# Altium schematic symbol library IC_Analog_Devices_ADM3260ARSZ-RL7_I2C_Isolator.SchLib: 1 symbol
Pins are listed as number, name and electrical type; pins without a type are passive.

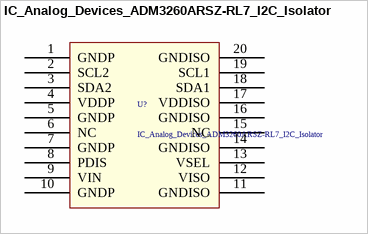
[diagram p0: symbol IC_Analog_Devices_ADM3260ARSZ-RL7_I2C_Isolator]

## IC_Analog_Devices_ADM3260ARSZ-RL7_I2C_Isolator
designator U?
Digital Isolators Isolated I2C & Power; Supplier Part Number 1: 584-ADM3260ARSZ-RL7; Supplier 1: Mouser
footprint IC_Analog_Devices_ADM3260ARSZ-RL7_I2C_Isolator (SOP, 20-Leads, Body 7.20x5.30mm, Pitch 0.65mm, IPC Medium Density)
pins: 1 GNDP, 2 SCL2, 3 SDA2, 4 VDDP, 5 GNDP, 6 NC, 7 GNDP, 8 PDIS, 9 VIN, 10 GNDP, 11 GNDISO, 12 VISO, 13 VSEL, 14 GNDISO, 15 NC, 16 GNDISO, 17 VDDISO, 18 SDA1, 19 SCL1, 20 GNDISO